# Altium footprint library 电阻.PcbLib: 32 footprints (part 2 of 2)
Each footprint in its own frame and in the unit in brackets; x right, y up, seen from the top. Pads: shape width x height; smd on the part's side, far side on the other; paste and mask are expansions set on the pad; w line width, h text height; cw(c..) or ccw(c..) is an arc to the next point about the centre after c.
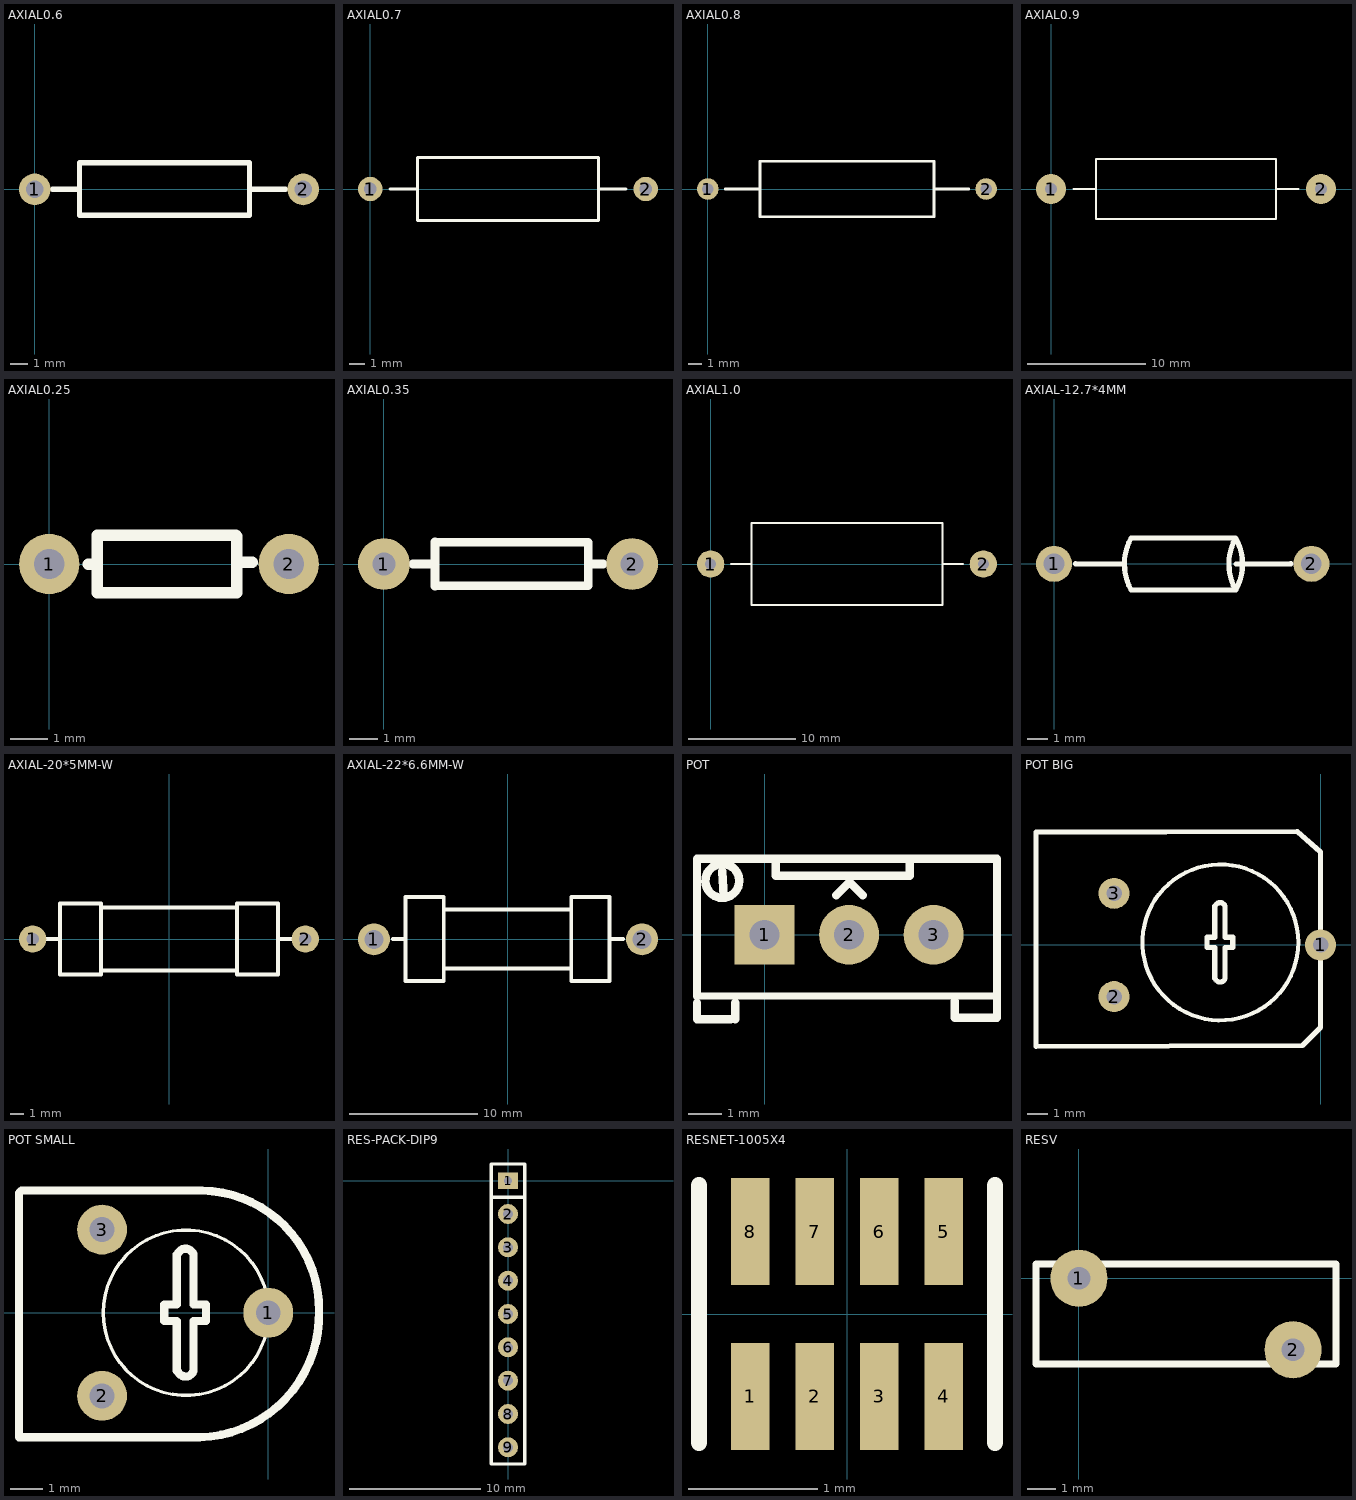
[diagram p1: the footprints below, top view; thin cyan lines are the x and y axes]

## AXIAL0.6 [mm]
pads (2):
  round 1.8 hole 1: 1(0,0) 2(15.24,0)
Top Overlay:
  lines w0.3: 12.192,-1.476 12.192,1.524
  lines w0.305: 1.016,0 2.54,0 ; 12.192,-1.476 2.54,-1.476 2.54,1.524 12.192,1.524 ; 12.192,0 14.224,0
3D body "axial-0.6-2W.SLDPRT": height 7.26, standoff -2, extent -0.397,-2.759 15.637,2.759

## AXIAL0.7 [mil]
pads (2):
  round 62 hole 32: 1(0,0) 2(700,0)
Top Overlay:
  lines w8: 50,0 120,0 ; 580,0 650,0 ; 120,-80 120,80 580,80 580,-80 120,-80

## AXIAL0.8 [mil]
pads (2):
  round 62 hole 32: 1(0,0) 2(800,0)
Top Overlay:
  lines w8: 50,0 150,0 ; 650,0 750,0 ; 150,-80 150,80 650,80 650,-80 150,-80

## AXIAL0.9 [mil]
pads (2):
  round 100 hole 40: 1(0,0) 2(900,0)
Top Overlay:
  lines w8: 75,0 150,0 ; 750,0 825,0 ; 150,-100 750,-100 750,100 150,100 150,-100

## AXIAL0.25 [mm]
pads (2):
  round 1.6 hole 0.8: 1(0,0) 2(6.35,0)
Top Overlay:
  lines w0.3: 1.27,-0.762 4.974,-0.762 4.974,0.738 4.95,0.762 1.27,0.762
  lines w0.305: 1.041,0 1.27,0 ; 1.27,-0.762 1.27,0.762 ; 5.148,0.042 5.377,0.042
3D body "AXIAL-0.2-0.125W.STEP": height 2.91, standoff -2, extent 0.41,-0.91 5.94,0.91

## AXIAL0.35 [mm]
pads (2):
  round 1.8 hole 0.8: 1(0,0) 2(8.636,0)
Top Overlay:
  lines w0.3: 1.778,-0.762 7.112,-0.762 7.112,0 7.112,0.762 1.778,0.762 1.778,-0.762
  lines w0.305: 1.016,0 1.778,0 ; 1.778,-0.762 1.778,0.762 ; 7.112,0 7.62,0
3D body "AXIAL0.3.STEP": height 3.51, standoff 0, extent 0.254,-0.971 8.382,0.971

## AXIAL1.0 [mil]
pads (2):
  round 100 hole 40: 1(0,0) 2(1000,0)
Top Overlay:
  lines w8: 75,0 150,0 ; 850,0 925,0 ; 150,-150 150,150 850,150 850,-150 150,-150

## AXIAL-12.7*4MM [mil]
height 196.85
pads (2):
  round 70 hole 40: 1(0,0) 2(500,0)
Top Overlay:
  lines w10: 41.9,0.1 137,0 ; 354,-0.03 459.88,0.12 ; 352.86,50.46 ccw(c443.74,-0.15) 353,-51 ; 352.86,50.46 cw(c262.12,-0.4) 353,-51 ; 352.86,50.46 149.86,50.46 ccw(c240.74,-0.15) 150,-51 353,-51
3D body "User Library-res_05x12_5.STEP": height 161.42, standoff -51.18, extent -6,-64 509.75,61.98

## AXIAL-20*5MM-W [mm] "2W电阻"
height 10
pads (2):
  round 2 hole 0.9: 1(-10,0) 2(10,0)
Top Overlay:
  lines w0.3: -5,-2.6 -5,-2 -5,2 -5,2.6 ; -5,-2.3 5,-2.3 ; -5,2.3 5,2.3 ; 5,-2.6 5,-2 5,2 5,2.6
  lines w0.305: -8.983,0 -8,0 ; -5,-2.6 -8,-2.6 -8,2.6 -5,2.6 ; 5,-2.6 8,-2.6 8,2.6 5,2.6 ; 8,0 9.068,0
3D body "User Library-res_20x20.STEP": height 5.8, standoff -1.4, extent -10.425,-2.515 10.375,2.485

## AXIAL-22*6.6MM-W [mm] "2W电阻"
height 10
pads (2):
  round 2.5 hole 1.5: 1(-10.465,-0.025) 2(10.541,-0.025)
Top Overlay:
  lines w0.3: -5,-3.3 -5,3.3 ; -5,-2.6 -5,-2 ; -5,-2.3 5,-2.3 ; -5,2 -5,2.6 ; -5,2.3 5,2.3 ; 5,-3.3 5,3.3 ; 5,-2.6 5,-2 ; 5,2 5,2.6
  lines w0.305: -8.983,0 -8,0 ; -5,-3.3 -8,-3.3 -8,3.3 -5,3.3 ; 5,-3.3 8,-3.3 8,3.3 5,3.3 ; 8,0 9.068,0
3D body "SW3dPS-AXIAL_RESISTOR(3W).STEP": height 8.3, standoff -2, extent -10.998,-3.249 11.202,3.351

## POT [mm]
pads (3):
  rect 1.8x1.8 hole 0.9: 1(0,0)
  round 1.8 hole 0.9: 2(2.54,0) 3(5.08,0)
Top Overlay:
  lines w0.203: -2.032,-1.841 6.921,-1.841
  lines w0.254: -2.032,-2.54 -2.032,-2.04 ; -2.032,-1.841 -2.032,0.46 -2.032,1.604 -2.032,2.286 6.985,2.286 6.985,0 6.985,-2.5 5.715,-2.5 5.715,-2 ; -2.016,-2.54 -1.016,-2.54 ; -1.27,1.905 -1.225,1.153 ; -0.889,-2.54 -0.889,-2.04 ; -0.762,1.651 ccw(c-1.27,1.618) -0.761,1.608 ; 0.33,2.286 0.33,1.778 4.369,1.778 4.369,2.286 ; 2.159,1.194 2.553,1.587 2.946,1.194
3D body "SW3dPS-Potenciometro Vertical.STEP": height 12.46, standoff -5.04, extent -2.06,-2.438 7.14,2.362

## POT BIG [mil]
height 314.96
pads (3):
  round 60 hole 30: 1(0,0) 2(-400,-100) 3(-400,100)
Top Overlay:
  circle w7.87: c-194,5 r151.08
  lines w9.84: -204.06,-64.72 ccw(c-194.49,-61.84) -185,-65 ; -204.06,75.28 cw(c-194.58,72.12) -185,75
  lines w10: -205,-65 -205,-5 -220,-5 -220,15 -205,15 -205,75 ; -185,-65 -185,-5 -170,-5 -170,15 -185,15 -185,75 ; -551.18,-196.85 -35,-195 0,-160 0,-155 0,180 -45,220 -551.18,218.5 -551.18,-196.85

## POT SMALL [mil]
pads (3):
  round 60 hole 30: 1(0,0) 2(-200,-100) 3(-200,100)
Top Overlay:
  circle w3.94: c-99,0 r99.57
  lines w9.84: -109.06,-69.72 ccw(c-99.49,-66.84) -90,-70 ; -109.06,70.28 cw(c-99.58,67.12) -90,70
  lines w10: -110,-70 -110,-10 -125,-10 -125,10 -110,10 -110,70 ; -90,-70 -90,-10 -75,-10 -75,10 -90,10 -90,70 ; -300,-150 -300,144 -297,147 -79.78,147 cw(c-81.89,4.11) 61,2 cw(c-86.71,-2.29) -82.43,-150 -300,-150
3D body "PotSmall.STEP": height 314.96, standoff -78.74, extent -310.85,-149.99 64.95,150.01

## RES-PACK-DIP9 [mil]
pads (9):
  rect 59.06x50 hole 25: 1(0,0)
  round 60 hole 30: 2(0,-100) 3(0,-200) 4(0,-300) 5(0,-400) 6(0,-500) 7(0,-600) 8(0,-700) 9(0,-800)
Top Overlay:
  lines w10: -50,-50 50,-50 ; -50,-850 50,-850 50,50 -50,50 -50,-850
3D body "RESPACK-DIP9.STEP": height 459.24, standoff -78.74, extent -61.02,-832.41 59.06,31

## RESNET-1005X4 [mm]
pads (8):
  rect 0.3x0.83 smd: 1(-0.75,-0.64) 2(-0.25,-0.64) 3(0.25,-0.64) 4(0.75,-0.64) 5(0.75,0.64) 6(0.25,0.64) 7(-0.25,0.64) 8(-0.75,0.64)
Top Overlay:
  lines w0.127: -1.15,-1 -1.15,1 ; 1.15,-1 1.15,1
3D body "ResPack4.STEP": height 0.5, standoff 0, extent -1.043,-0.736 1.043,0.737

## RESV [mm]
height 5
pads (2):
  round 2 hole 0.8: 1(0,0) 2(7.5,-2.5)
Top Overlay:
  lines w0.254: -1.5,-3 -1.5,0.5 9,0.5 9,-3 -1.5,-3
3D body "RV.STEP": height 11, standoff -2, extent -1.19,-3.12 8.81,0.58